# EAGLE library part 74HC02PW,112 (library 74HC02PW_112)
74HC(T)02 - Quad 2-input NOR gate@en-us Source: Datasheet <https://assets.nexperia.com/documents/data-sheet/74HC_HCT02.pdf>
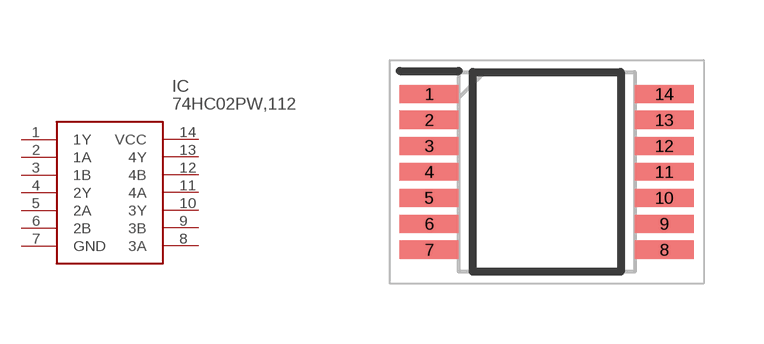
[diagram p0: symbol with the pads of SOP65P640X110-14N; footprint SOP65P640X110-14N]

Designator prefix IC

## 74HC02PW,112 (Arrow_Part_Number: 74HC02PW,112; Arrow_Price-Stock: https://www.arrow.com/en/products/74hc02pw112/nexperia; Description: 74HC(T)02 - Quad 2-input NOR gate@en-us; Height: 1.1mm; Manufacturer_Name: Nexperia; Manufacturer_Part_Number: 74HC02PW,112; Mouser_Part_Number: 771-HC02PW112; Mouser_Price-Stock: https://www.mouser.com/Search/Refine.aspx?Keyword=771-HC02PW112)  [SOP65P640X110-14N]
1  1Y
2  1A
3  1B
4  2Y
5  2A
6  2B
7  GND
8  3A
9  3B
10  3Y
11  4A
12  4B
13  4Y
14  VCC

## Footprint SOP65P640X110-14N (pad centres in mm)
SOT402-1
smd 1.475 x 0.45: 1 -2.938,1.95; 2 -2.938,1.3; 3 -2.938,0.65; 4 -2.938,0; 5 -2.938,-0.65; 6 -2.938,-1.3; 7 -2.938,-1.95; 8 2.938,-1.95; 9 2.938,-1.3; 10 2.938,-0.65; 11 2.938,0; 12 2.938,0.65; 13 2.938,1.3; 14 2.938,1.95